# EAGLE library part ROHM_RSS100N03 (library 180118 Library by matsu)
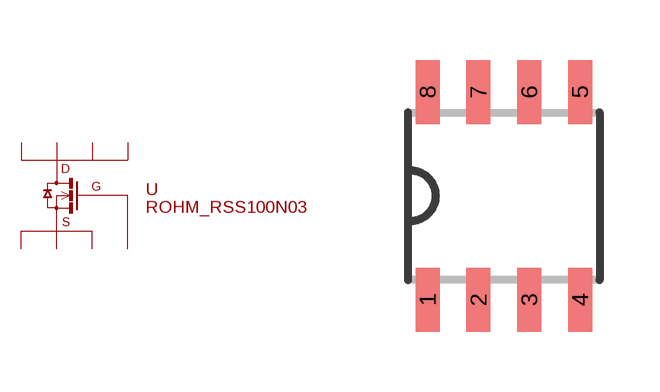
[diagram p40: symbol with the pads of SOP8; footprint SOP8]

Designator prefix -

## ROHM_RSS100N03  [SOP8]
1  S1  pas
2  S2  pas
3  S3  pas
4  G4  pas
5  D5  pas
6  D6  pas
7  D7  pas
8  D8  pas

## Footprint SOP8 (pad centres in mm)
SOP8 Source: http://www.rohm.com/products/databook/motor/pdf/bd623x_series-e.pdf
smd 0.6 x 1.6: 1 -1.905,-2.6; 2 -0.635,-2.6; 3 0.635,-2.6; 4 1.905,-2.6; 5 1.905,2.6; 6 0.635,2.6; 7 -0.635,2.6; 8 -1.905,2.6